# Altium integrated library 1735446-4.IntLib: 1 symbol
Pins are listed as number, name and electrical type; pins without a type are passive.

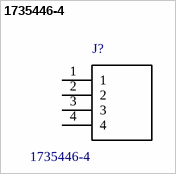
[diagram p0: symbol 1735446-4]

## 1735446-4
designator J?
SnapEDA_Link: https://www.snapeda.com/parts/1735446-4/TE%20Connectivity%20AMP%20Connectors/view-part/492692/?ref=snap; Value: *
footprint *TE_1735446-4
pins: 1, 2, 3, 4